# Altium integrated library NDS332P.IntLib: 2 symbols
Pins are listed as number, name and electrical type; pins without a type are passive.

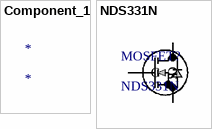
[diagram p0: symbols Component_1 to NDS331N]

## Component_1
designator *

## NDS331N
designator MOSFET?
No Description Available; Vendor: ON Semiconductor; Built_By: EMA_Cory; SourceLibrary: ON-Semiconductor_2020-07-10; Datasheet: https://www.onsemi.com/pub/Collateral/NDS331N-D.PDF; Manufacturer_Part_Number: NDS331N; Copyright: Copyright (C) 2018 Accelerated Designs. All rights reserved; RefDes: RefDes; Type: DEV
footprint SOT23_527AG_ONS
pins: 1 G, 2 S, 3 D